# Altium footprint library Footprints.PcbLib: 6 footprints
Each footprint in its own frame and in the unit in brackets; x right, y up, seen from the top. Pads: shape width x height; smd on the part's side, far side on the other; paste and mask are expansions set on the pad; w line width, h text height; cw(c..) or ccw(c..) is an arc to the next point about the centre after c.
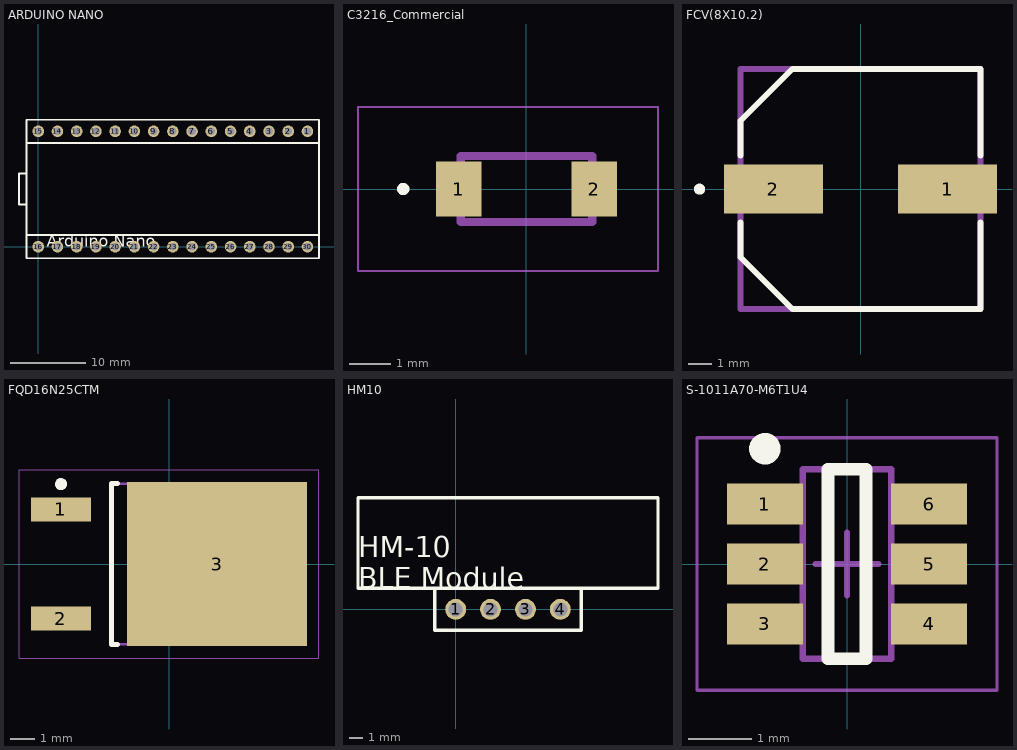
[diagram p0: the footprints below, top view; thin cyan lines are the x and y axes]

## ARDUINO NANO [mil]
pads (30):
  round 60 hole 40: 1(1400,600) 2(1300,600) 3(1200,600) 4(1100,600) 5(1000,600) 6(900,600) 7(800,600) 8(700,600) 9(600,600) 10(500,600) 11(400,600) 12(300,600) 13(200,600) 14(100,600) 15(0,600) 16(0,0) 17(100,0) 18(200,0) 19(300,0) 20(400,0) 21(500,0) 22(600,0) 23(700,0) 24(800,0) 25(900,0) 26(1000,0) 27(1100,0) 28(1200,0) 29(1300,0) 30(1400,0)
Top Overlay:
  lines w10: -60,220 -100,220 -100,380 -60,380 ; -60,60 -60,540 ; -60,60 1460,60 ; -60,60 -60,-60 1460,-60 1460,60 ; -60,540 1460,540 ; -60,540 -60,660 1460,660 1460,540 ; 1460,60 1460,540
  text "Arduino Nano" at 45.11,0 h60

## C3216_Commercial [mm]
pads (2):
  rect 1.1x1.35 smd: 1(-1.65,0) 2(1.65,0)
Top Overlay:
  circle w0.2: c-3,0 r0.05
Mechanical 13:
  lines w0.2: -1.6,-0.8 -1.6,0.8 1.6,0.8 1.6,-0.8 -1.6,-0.8
Mechanical 15:
  lines w0.05: -4.1,-2 -4.1,2 3.2,2 3.2,-2 -4.1,-2
3D body "C3216C0G1H104J160AA.stp": height 0.85, standoff 0, extent -2.09,-0.8 2.09,0.8

## FCV(8X10.2) [mm]
pads (2):
  rect 4.2x2.1 smd: 1(3.7,0) 2(-3.7,0)
Top Overlay:
  circle w0.254: c-6.84,-0.007 r0.109
  lines w0.254: -5.1,-1.415 -5.1,-2.9 -2.9,-5.1 5.1,-5.1 5.1,-1.415 ; -5.1,1.415 -5.1,2.9 -2.9,5.1 5.1,5.1 5.1,1.415
Mechanical 13:
  lines w0.254: -5.1,-5.1 -5.1,5.1 5.1,5.1 5.1,-5.1 -5.1,-5.1

## FQD16N25CTM [mm] "D-PAK, 3-Pads, Body 6.21x6.72mm (max), IPC Low Density"
height 2.39
pads (3):
  rect 2.5x1 smd: 1(-4.5,2.28) 2(-4.5,-2.28)
  rect 7.5x6.85 smd: 3(2,0)
Top Overlay:
  circle w0.25: c-4.5,3.33 r0.125
  lines w0.2: -2.15,-3.35 -2.4,-3.35 -2.4,3.35 -2.15,3.35
Mechanical 13:
  lines w0.1: -2.4,-3.35 3.82,-3.35 3.82,3.35 -2.4,3.35 -2.4,-3.35
Mechanical 15:
  lines w0.05: -6.25,-3.925 6.25,-3.925 6.25,3.925 -6.25,3.925 -6.25,-3.925
  lines w0.1: -0.5,0 0.5,0 ; 0,-0.5 0,0.5
3D body: height 2.39, standoff 0, extent -2.4,-3.35 3.82,3.35

## HM10 [mil]
pads (4):
  round 60 hole 40: 1(0,0) 2(100,0) 3(200,0) 4(300,0)
Top Overlay:
  lines w10: -280,60 -280,320 580,320 580,60 150,60 -280,60 ; -60,-60 360,-60 360,60 -60,60 -60,-60
  text "HM-10 / BLE Module" at -280,60 h60

## S-1011A70-M6T1U4 [mm] "SOT23, 6-Leads, Body 2.90x2.45mm, Pitch 0.95mm, IPC Low Density"
height 1.1
pads (6):
  rect 1.2x0.65 smd: 1(-1.3,0.95) 2(-1.3,0) 3(-1.3,-0.95) 4(1.3,-0.95) 5(1.3,0) 6(1.3,0.95)
Top Overlay:
  circle w0.25: c-1.3,1.825 r0.125
  lines w0.2: -0.3,-1.5 -0.3,1.5 0.3,1.5 0.3,-1.5 -0.3,-1.5
Mechanical 13:
  lines w0.1: -0.7,-1.5 0.7,-1.5 0.7,1.5 -0.7,1.5 -0.7,-1.5
Mechanical 15:
  lines w0.05: -2.375,-2 2.375,-2 2.375,2 -2.375,2 -2.375,-2
  lines w0.1: -0.5,0 0.5,0 ; 0,-0.5 0,0.5
3D body: height 1.1, standoff 0.05, extent -0.7,-1.5 0.7,1.5